# Altium schematic symbol library Power_plan10-14.SCHLIB: 10 symbols
Pins are listed as number, name and electrical type; pins without a type are passive.

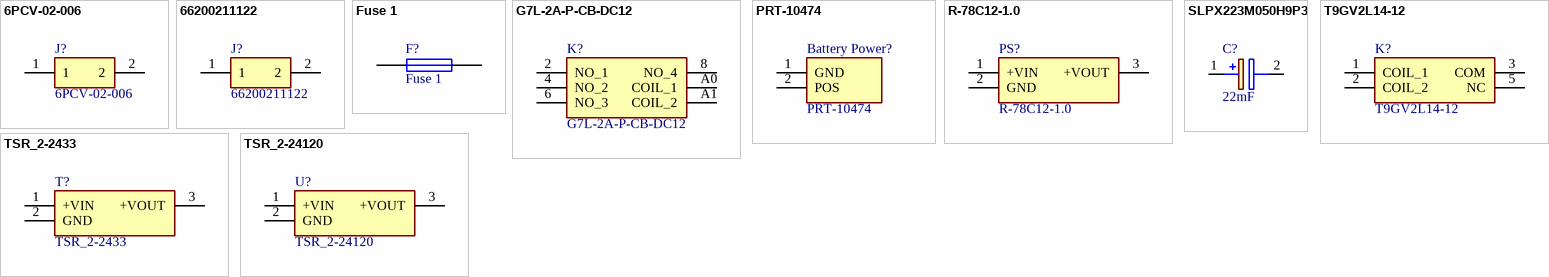
[diagram p0: symbols 6PCV-02-006 to TSR_2-24120]

## 6PCV-02-006
designator J?
Connector; Manufacturer_Name: TE Connectivity; Datasheet Link: https://www.te.com/commerce/DocumentDelivery/DDEController?Action=showdoc&DocId=Customer+Drawing%7F3-1437652-9%7FP%7Fpdf%7FEnglish%7FENG_CD_3-1437652-9_P_baseFilename.pdf%7F3-1437652-9; Height: 15.875mm; Manufacturer_Part_Number: 6PCV-02-006; Mouser Part Number: 571-314376529; Mouser Price/Stock: https://www.mouser.com/Search/Refine.aspx?Keyword=571-314376529
footprint 6PCV02006
pins: 1, 2

## 66200211122
designator J?
Connector; Manufacturer_Name: Wurth Elektronik; Datasheet Link: http://katalog.we-online.de/em/datasheet/6620xx11122.pdf; Manufacturer_Part_Number: 66200211122; Mouser Part Number: 710-66200211122; Mouser Price/Stock: https://www.mouser.com/Search/Refine.aspx?Keyword=710-66200211122; RS Part Number: 8285934P; RS Price/Stock: http://uk.rs-online.com/web/p/products/8285934P
footprint 66200211122
pins: 1, 2

## Fuse 1
designator F?
Fuse; Published: 8-Jun-2000; LatestRevisionDate: 17-Jul-2002; LatestRevisionNote: Re-released for DXP Platform.; PackageReference: PIN-W2/E2.8; Publisher: Altium Limited; PackageDescription: Thru-Hole; 2 Leads
footprint PIN-W2/E2.8 (Thru-Hole; 2 Leads)
simulation model FUSE (Spice Subcircuit)
footprint *RESC3116X65N
pins: 1, 2

## G7L-2A-P-CB-DC12
designator K?
Relay or Contactor; Manufacturer_Name: Omron Electronics; Allied_Number: 71561431; Datasheet Link: https://omronfs.omron.com/en_US/ecb/products/pdf/en-g7l.pdf; Height: 41mm; Manufacturer_Part_Number: G7L-2A-P-CB-DC12; Mouser Part Number: 653-G7L-2A-PCB-DC12; Mouser Price/Stock: https://www.mouser.com/Search/Refine.aspx?Keyword=653-G7L-2A-PCB-DC12; Allied Price/Stock: https://www.alliedelec.com/omronelectroniccomponents-g7l-2a-p-cb-dc12/71561431/
footprint G7L2APCBDC12
pins: 2 NO_1, 4 NO_2, 6 NO_3, 8 NO_4, A0 COIL_1, A1 COIL_2

## PRT-10474
designator Battery Power?
Connector; Manufacturer_Name: SparkFun; Datasheet Link: http://cdn.sparkfun.com/datasheets/Prototyping/xt60.pdf; Height: 15.875mm; Manufacturer_Part_Number: PRT-10474; Mouser Part Number: 474-PRT-10474; Mouser Price/Stock: https://www.mouser.com/Search/Refine.aspx?Keyword=474-PRT-10474
footprint SHDR2W320P716_1X2_1574X813X1588P
pins: 1 GND (power), 2 POS (power)

## R-78C12-1.0
designator PS?
Power Supply; Manufacturer_Name: RECOM Power; Allied_Number: 70425118; Datasheet Link: https://recom-power.com/pdf/Innoline/R-78C-1.0.pdf; Height: 10.4mm; Manufacturer_Part_Number: R-78C12-1.0; Mouser Part Number: 919-R-78C12-1.0; Mouser Price/Stock: https://www.mouser.com/Search/Refine.aspx?Keyword=919-R-78C12-1.0; RS Part Number: 7398304P; RS Price/Stock: http://uk.rs-online.com/web/p/products/7398304P; Allied Price/Stock: https://www.alliedelec.com/recompower-inc-r-78c12-1-0/70425118/
footprint R78C1210
pins: 1 +VIN, 2 GND, 3 +VOUT

## SLPX223M050H9P3
designator C?, comment 22mF
Capacitor Polarised; Manufacturer_Name: Cornell Dubilier; Manufacturer_Part_Number: SLPX223M050H9P3; Allied_Number: 70189923; Datasheet Link: http://www.cde.com/resources/catalogs/SLPX.pdf; Mouser Part Number: 598-SLPX223M050H9P3; Mouser Price/Stock: https://www.mouser.com/Search/Refine.aspx?Keyword=598-SLPX223M050H9P3; RS Part Number: 7441170P; RS Price/Stock: http://uk.rs-online.com/web/p/products/7441170P; Allied Price/Stock: https://www.alliedelec.com/cornell-dubilier-slpx223m050h9p3/70189923/
footprint SLPX(H9)
pins: 1 +, 2 -

## T9GV2L14-12
designator K?
Relay or Contactor; Manufacturer_Name: TE Connectivity; Datasheet Link: https://www.te.com/commerce/DocumentDelivery/DDEController?Action=showdoc&DocId=Data+Sheet%7FT9G_1216%7F0718%7Fpdf%7FEnglish%7FENG_DS_T9G_1216_0718.pdf%7F1558662-3; Height: 3.7mm; Manufacturer_Part_Number: T9GV2L14-12; Mouser Part Number: 655-T9GV2L14-12; Mouser Price/Stock: https://www.mouser.com/Search/Refine.aspx?Keyword=655-T9GV2L14-12
footprint T9GV2L1412
pins: 1 COIL_1, 2 COIL_2, 3 COM, 5 NC

## TSR_2-2433
designator T?
Transformer; Manufacturer_Name: Traco Power; Manufacturer_Part_Number: TSR 2-2433; Allied_Number: 71066182; Datasheet Link: http://assets.tracopower.com/20170228093640/TSR2/documents/tsr2-datasheet.pdf; Mouser Part Number: 495-TSR2-2433; Mouser Price/Stock: https://www.mouser.com/Search/Refine.aspx?Keyword=495-TSR2-2433; RS Part Number: 9068478P; RS Price/Stock: http://uk.rs-online.com/web/p/products/9068478P; Allied Price/Stock: https://www.alliedelec.com/tracopower-tsr-2-2433/71066182/
footprint TSR-2
pins: 1 +VIN, 2 GND, 3 +VOUT

## TSR_2-24120
designator U?
Undefined or Miscellaneous; Manufacturer_Name: Traco Power; Manufacturer_Part_Number: TSR 2-24120; Allied_Number: 71066177; Datasheet Link: https://assets.tracopower.com/20180205131340/TSR2/documents/tsr2-datasheet.pdf; Mouser Part Number: 495-TSR2-24120; Mouser Price/Stock: https://www.mouser.com/Search/Refine.aspx?Keyword=495-TSR2-24120; RS Part Number: 9068493P; RS Price/Stock: http://uk.rs-online.com/web/p/products/9068493P; Allied Price/Stock: https://www.alliedelec.com/tracopower-tsr-2-24120/71066177/
footprint TSR-2
pins: 1 +VIN, 2 GND, 3 +VOUT